# EAGLE library part MDIN04 (library xess)
4-pin mini-din connector
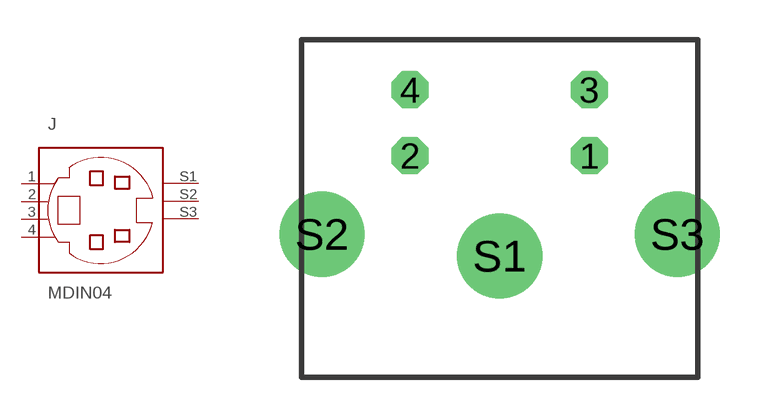
[diagram p30: symbol with the pads of MDIN04S; footprint MDIN04S]

Designator prefix J

## MDIN04  [MDIN04S]
1  1  pas
2  2  pas
3  3  pas
4  4  pas
S1  S1  pwr
S2  S2  pwr
S3  S3  pwr

## Footprint MDIN04S (pad centres in mm)
drill 0.9 octagon: 1 3.4,0.88; 2 -3.4,0.88; 3 3.4,3.38; 4 -3.4,3.38
drill 2.21 round: S1 0,-2.921; S2 -6.731,-2.095; S3 6.731,-2.095